# EAGLE library part I-02131_R8C_29 (library Akizuki)
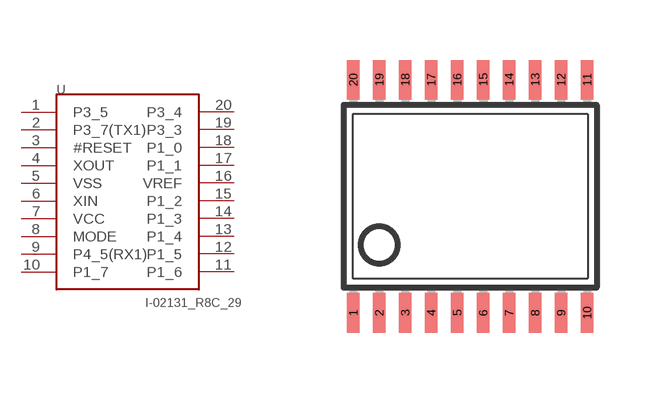
[diagram p15: symbol with the pads of TSSOP20; footprint TSSOP20]

Designator prefix U

## I-02131_R8C_29  [TSSOP20]
1  P3_5
2  P3_7(TX1)
3  #RESET
4  XOUT
5  VSS
6  XIN
7  VCC
8  MODE
9  P4_5(RX1)
10  P1_7
11  P1_6
12  P1_5
13  P1_4
14  P1_3
15  P1_2
16  VREF
17  P1_1
18  P1_0
19  P3_3
20  P3_4

## Footprint TSSOP20 (pad centres in mm)
Thin Shrink Small Outline Plastic 20 MAX3223-MAX3243.pdf
smd 0.305 x 0.991: 1 -2.925,-2.918; 2 -2.275,-2.918; 3 -1.625,-2.918; 4 -0.975,-2.918; 5 -0.325,-2.918; 6 0.325,-2.918; 7 0.975,-2.918; 8 1.625,-2.918; 9 2.275,-2.918; 10 2.925,-2.918; 11 2.925,2.918; 12 2.275,2.918; 13 1.625,2.918; 14 0.975,2.918; 15 0.325,2.918; 16 -0.325,2.918; 17 -0.975,2.918; 18 -1.625,2.918; 19 -2.275,2.918; 20 -2.925,2.918